# Altium footprint library GPS.PcbLib: 32 footprints (part 2 of 2)
Each footprint in its own frame and in the unit in brackets; x right, y up, seen from the top. Pads: shape width x height; smd on the part's side, far side on the other; paste and mask are expansions set on the pad; w line width, h text height; cw(c..) or ccw(c..) is an arc to the next point about the centre after c.
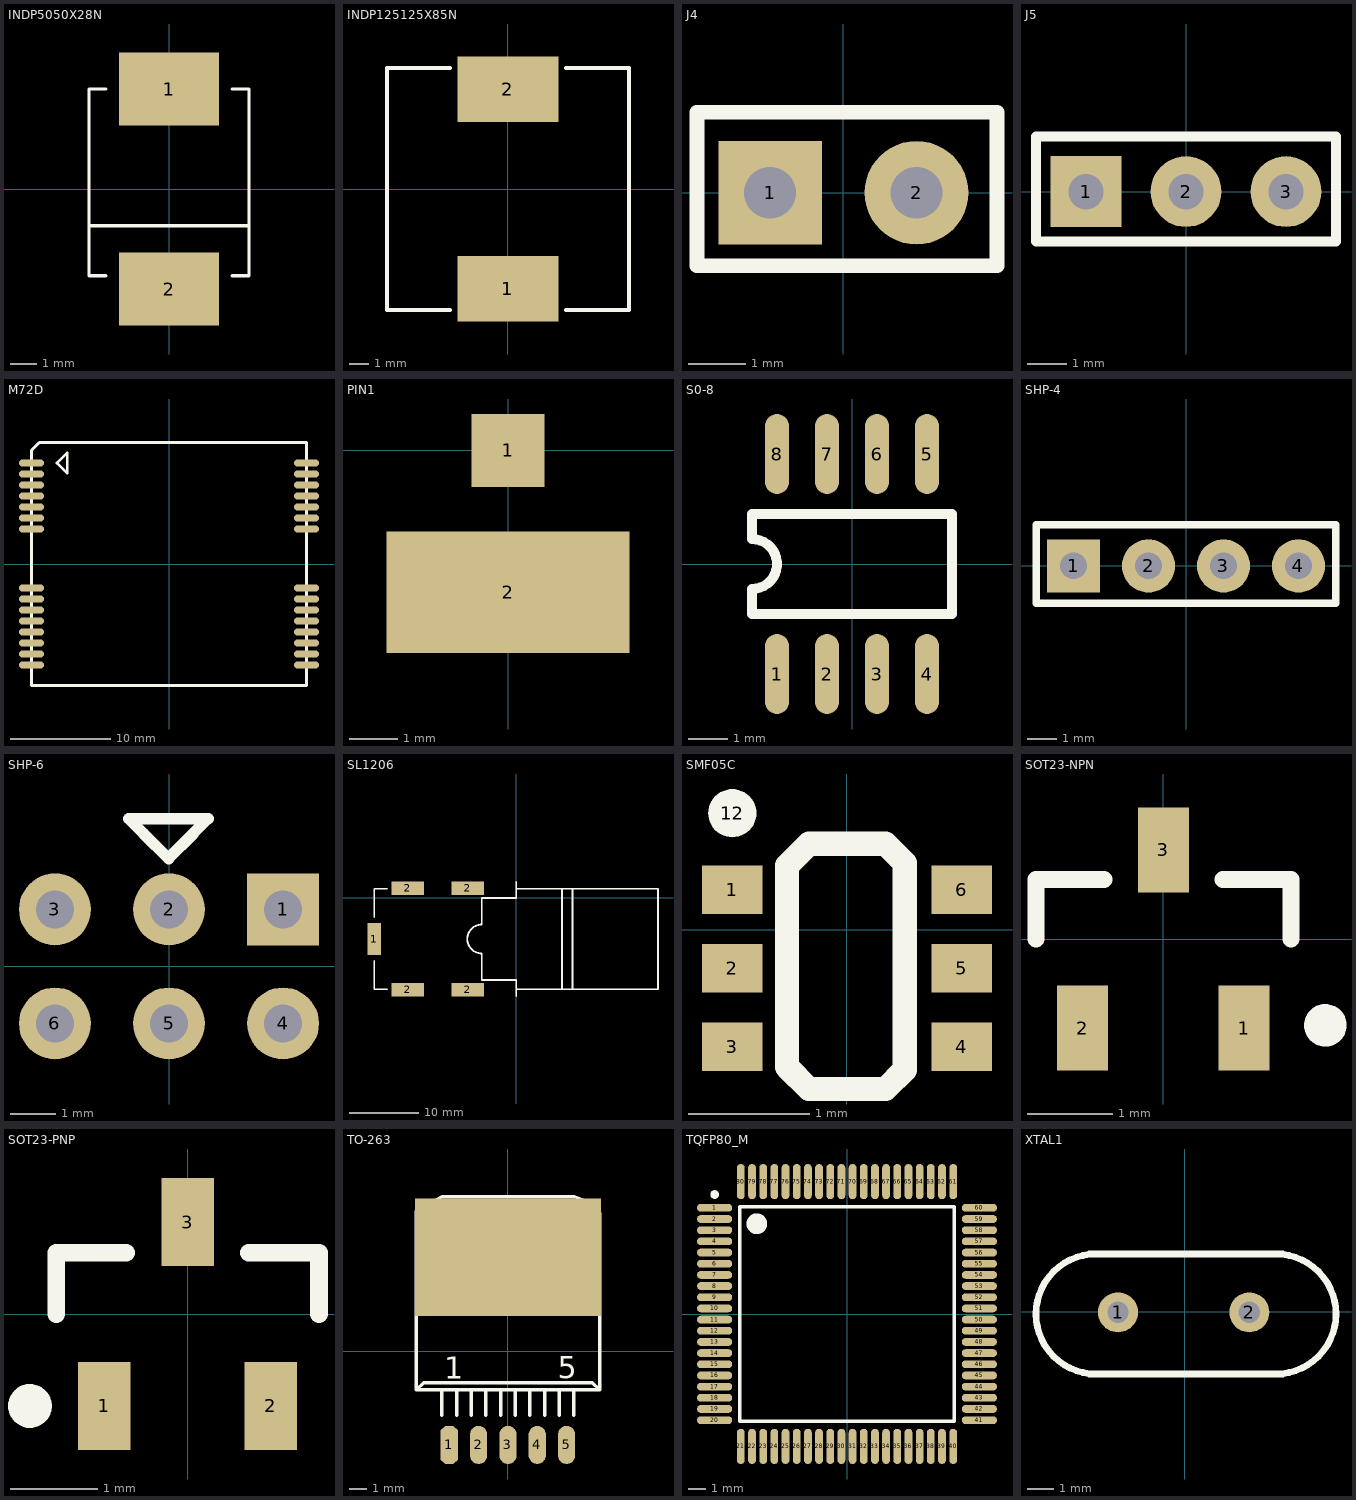
[diagram p1: the footprints below, top view; thin cyan lines are the x and y axes]

## INDP5050X28N [mil]
pads (2):
  rect 150x110 smd: 1(0,150) 2(0,-150)
Top Overlay:
  lines w5: -120,-55 120,-55 ; -95,-130 -120,-130 -120,150 -95,150 ; 95,-130 120,-130 120,150 95,150

## INDP125125X85N [mm]
pads (2):
  rect 5.2x3.4 smd: 1(0,-5.15) 2(0,5.15)
Top Overlay:
  lines w0.2: -3,-6.25 -6.25,-6.25 -6.25,6.25 -3,6.25 ; 3,-6.25 6.25,-6.25 6.25,6.25 3,6.25

## J4 [mm]
pads (2):
  rect 1.8x1.8 hole 0.9: 1(-1.27,0)
  round 1.8 hole 0.9: 2(1.27,0)
Top Overlay:
  lines w0.254: -2.54,-1.27 -2.54,1.4 2.667,1.4 2.667,-1.27 -2.54,-1.27

## J5 [mm]
pads (3):
  rect 1.8x1.8 hole 0.9: 1(-2.54,0)
  round 1.8 hole 0.9: 2(0,0) 3(2.54,0)
Top Overlay:
  lines w0.254: -3.81,-1.27 -3.81,1.4 3.81,1.4 3.81,-1.27 -3.81,-1.27

## M72D [mm]
pads (30):
  oval 2.5x0.7 smd: 1(-13.75,10.1) 2(-13.75,9) 3(-13.75,7.9) 4(-13.75,6.8) 5(-13.75,5.7) 6(-13.75,4.6) 7(-13.75,3.5) 8(-13.75,-2.4) 9(-13.75,-3.5) 10(-13.75,-4.6) 11(-13.75,-5.7) 12(-13.75,-6.8) 13(-13.75,-7.9) 14(-13.75,-9) 15(-13.75,-10.1) 16(13.75,-10.1) 17(13.75,-9) 18(13.75,-7.9) 19(13.75,-6.8) 20(13.75,-5.7) 21(13.75,-4.6) 22(13.75,-3.5) 23(13.75,-2.4) 24(13.75,3.5) 25(13.75,4.6) 26(13.75,5.7) 27(13.75,6.8) 28(13.75,7.9) 29(13.75,9) 30(13.75,10.1)
Top Overlay:
  lines w0.254: -11.21,10.1 -10.194,11.116 -10.194,9.084 -11.21,10.1
  lines w0.3: -13.75,-12.15 -13.75,11.37 -12.97,12.15 -12.843,12.15 13.75,12.15 13.75,-12.15 -13.75,-12.15

## PIN1 [mm]
height 0.65
pads (2):
  rect 1.5x1.5 smd: 1(0,0)
  rect 5x2.5 smd: 2(0,-2.921)

## S0-8 [mil]
height 25.59
pads (8):
  oval 24x80 smd: 1(-75,-110) 2(-25,-110) 3(25,-110) 4(75,-110) 5(75,110) 6(25,110) 7(-25,110) 8(-75,110)
Top Overlay:
  lines w10: -100,-50 -100,-25 ccw(c-100,0) -100,25 -100,50 100,50 100,-50 -100,-50

## SHP-4 [mm]
pads (4):
  rect 1.8x1.8 hole 0.9: 1(-3.81,0)
  round 1.8 hole 0.9: 2(-1.27,0) 3(1.27,0) 4(3.81,0)
Top Overlay:
  lines w0.254: -5.08,-1.27 5.08,-1.27 5.08,1.4 -5.08,1.4 -5.08,-1.27

## SHP-6 [mm]
pads (6):
  rect 1.6x1.6 hole 0.85: 1(2.54,1.27)
  round 1.6 hole 0.85: 2(0,1.27) 3(-2.54,1.27) 4(2.54,-1.27) 5(0,-1.27) 6(-2.54,-1.27)
Top Overlay:
  lines w0.254: -0.56,2.95 -0.01,2.4 ; 0.54,2.95 -0.01,2.4 ; -0.01,2.4 -0.01,2.4 ; -0.01,2.4 -0.01,2.4 ; -0.01,2.4 -0.01,2.4 ; -0.01,2.4 -0.9,3.29 0.87,3.29 -0.01,2.41 -0.01,2.4

## SL1206 [mm]
pads (5):
  rect 2x4.7 smd: 1(-20.6,-5.95)
  rect 4.7x2 smd: 2(-15.75,-13.3) 2(-15.75,1.4) 2(-7.05,-13.3) 2(-7.05,1.4)
Top Overlay:
  lines w0.254: -20.6,-9.125 -20.6,-13.25 -18.761,-13.25 ; -20.6,-2.775 -20.6,1.35 -18.695,1.35 ; -0.006,-13.25 0,-13.244 6.64,-13.244 ; 0,-14.205 0,-11.919 ; 0,-11.9 -5,-11.9 -5,-8.05 cw(c-5,-5.95) -5,-3.85 -5,0 0,0 0,2.305 ; 0,1.35 6.64,1.35 ; 6.64,-13.244 6.64,1.35 ; 6.64,-13.244 8.14,-13.244 ; 6.64,1.35 8.14,1.35 ; 8.14,-13.244 8.14,1.35 ; 8.14,-13.244 20.54,-13.244 20.54,1.35 8.14,1.35

## SMF05C [mm]
pads (7):
  rect 0.5x0.4 smd: 1(-0.95,0.333) 2(-0.95,-0.318) 3(-0.95,-0.967) 4(0.95,-0.967) 5(0.95,-0.318) 6(0.95,0.333)
  round 0.4 on Top Overlay: 12(-0.95,0.968)
Top Overlay:
  lines w0.2: -0.496,-1.137 -0.496,0.533 -0.315,0.714 0.32,0.714 0.479,0.555 0.479,-1.16 0.32,-1.318 -0.315,-1.318 -0.496,-1.137

## SOT23-NPN [mm]
pads (3):
  rect 0.6x1 smd: 1(0.95,-1.05) 2(-0.95,-1.05) 3(0,1.05)
Top Overlay:
  circle w0.25: c1.907,-1.016 r0.125
  lines w0.2: -1.5,0 -1.5,0.7 -0.7,0.7 ; 0.7,0.7 1.5,0.7 1.5,0

## SOT23-PNP [mm]
pads (3):
  rect 0.6x1 smd: 1(-0.95,-1.05) 2(0.95,-1.05) 3(0,1.05)
Top Overlay:
  circle w0.25: c-1.8,-1.05 r0.125
  lines w0.2: -1.5,0 -1.5,0.7 -0.7,0.7 ; 0.7,0.7 1.5,0.7 1.5,0

## TO-263 [mm]
pads (6):
  oct 0.995x2.201 smd: 1(-3.387,-5.42)
  oval 0.995x2.201 smd: 2(-1.693,-5.42) 3(0,-5.42) 4(1.693,-5.42) 5(3.387,-5.42)
  rect 10.76x6.8 smd: ""(0.003,5.42)
Top Overlay:
  lines w0.2: -3.81,-3.72 -3.81,-2.245 ; -2.963,-3.72 -2.963,-2.245 ; -2.117,-3.72 -2.117,-2.245 ; -1.27,-3.72 -1.27,-2.245 ; -0.423,-3.72 -0.423,-2.245 ; 0.423,-3.72 0.423,-2.245 ; 1.27,-3.72 1.27,-2.245 ; 2.117,-3.72 2.117,-2.245 ; 2.963,-3.72 2.963,-2.245 ; 3.81,-3.72 3.81,-2.245 ; -5.292,-2.245 5.292,-2.245 ; -5.292,-2.245 -5.292,6.433 -5.292,7.703 -5.297,8.07 -3.787,8.92 3.833,8.92 5.283,8.3 5.292,7.703 5.292,6.433 5.292,-2.245 ; -5.292,-2.245 -4.868,-1.822 4.868,-1.822 5.292,-2.245
  text "1" at -3.669,-1.59 h1.27
  text "5" at 2.89,-1.562 h1.27

## TQFP80_M [mm]
pads (80):
  oval 2.05x0.45 smd: 1(-7.7,6.175) 2(-7.7,5.525) 3(-7.7,4.875) 4(-7.7,4.225) 5(-7.7,3.575) 6(-7.7,2.925) 7(-7.7,2.275) 8(-7.7,1.625) 9(-7.7,0.975) 10(-7.7,0.325) 11(-7.7,-0.325) 12(-7.7,-0.975) 13(-7.7,-1.625) 14(-7.7,-2.275) 15(-7.7,-2.925) 16(-7.7,-3.575) 17(-7.7,-4.225) 18(-7.7,-4.875) 19(-7.7,-5.525) 20(-7.7,-6.175) 41(7.7,-6.175) 42(7.7,-5.525) 43(7.7,-4.875) 44(7.7,-4.225) 45(7.7,-3.575) 46(7.7,-2.925) 47(7.7,-2.275) 48(7.7,-1.625) 49(7.7,-0.975) 50(7.7,-0.325) 51(7.7,0.325) 52(7.7,0.975) 53(7.7,1.625) 54(7.7,2.275) 55(7.7,2.925) 56(7.7,3.575) 57(7.7,4.225) 58(7.7,4.875) 59(7.7,5.525) 60(7.7,6.175)
  oval 0.45x2.05 smd: 21(-6.175,-7.7) 22(-5.525,-7.7) 23(-4.875,-7.7) 24(-4.225,-7.7) 25(-3.575,-7.7) 26(-2.925,-7.7) 27(-2.275,-7.7) 28(-1.625,-7.7) 29(-0.975,-7.7) 30(-0.325,-7.7) 31(0.325,-7.7) 32(0.975,-7.7) 33(1.625,-7.7) 34(2.275,-7.7) 35(2.925,-7.7) 36(3.575,-7.7) 37(4.225,-7.7) 38(4.875,-7.7) 39(5.525,-7.7) 40(6.175,-7.7) 61(6.175,7.7) 62(5.525,7.7) 63(4.875,7.7) 64(4.225,7.7) 65(3.575,7.7) 66(2.925,7.7) 67(2.275,7.7) 68(1.625,7.7) 69(0.975,7.7) 70(0.325,7.7) 71(-0.325,7.7) 72(-0.975,7.7) 73(-1.625,7.7) 74(-2.275,7.7) 75(-2.925,7.7) 76(-3.575,7.7) 77(-4.225,7.7) 78(-4.875,7.7) 79(-5.525,7.7) 80(-6.175,7.7)
Top Overlay:
  circle w0.6: c-5.25,5.25 r0.3
  circle w0.25: c-7.7,6.95 r0.125
  lines w0.2: -6.25,-6.25 6.25,-6.25 6.25,6.25 -6.25,6.25 -6.25,-6.25

## XTAL1 [mil]
height 25.59
pads (2):
  round 60 hole 32: 1(-100.19,-0.71) 2(96.81,-0.71)
Top Overlay:
  lines w10: -143.19,-93.21 146.81,-93.21 ; -143.19,86.79 146.81,86.79 ; -133.19,-93.21 cw(c-133.19,-3.21) -133.19,86.79 ; 136.81,-93.21 ccw(c136.81,-3.21) 136.81,86.79